# Altium schematic symbol library PS1608G.SchLib: 1 symbol
Pins are listed as number, name and electrical type; pins without a type are passive.

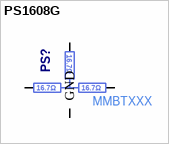
[diagram p0: symbol PS1608G]

## PS1608G
designator PS?  Manufacturer Part Number: MMBTXXX  (hidden comment: *)
pins: 1 IN, 2 OUT1, 3 OUT2, 4 GND
text: 16.7Ω